# Altium schematic symbol library Microver.SchLib: 988 symbols (part 17 of 17)
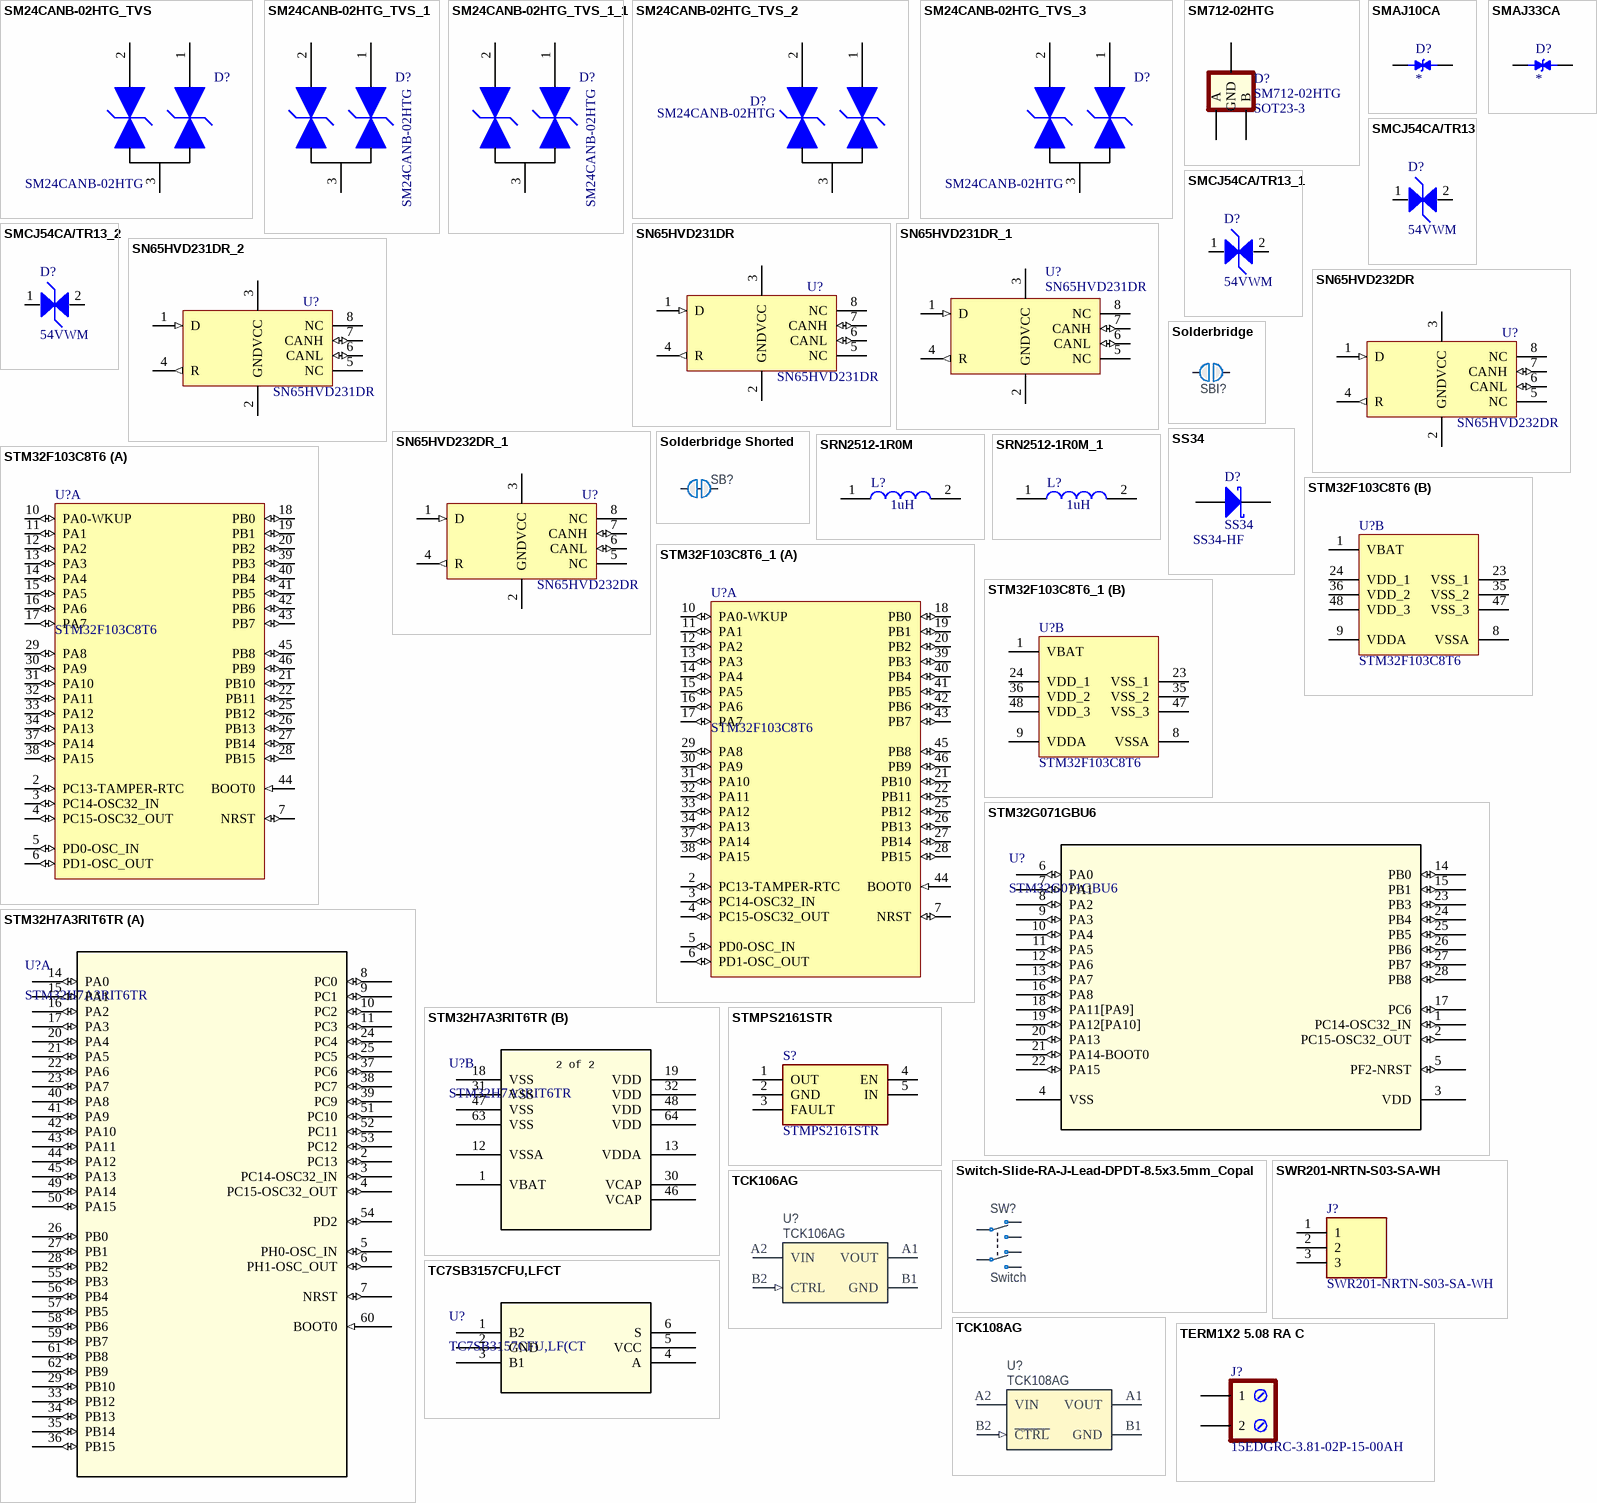
[diagram p45: symbols SM24CANB-02HTG_TVS to TERM1X2 5.08 RA C]

## STM32F103C8T6
designator U?
ARM Cortex-M3 32-bit MCU, 64 KB Flash, 20 KB Internal RAM, 37 I/Os, 48-pin LQFP, -40 to 85 degC, Tray; Operating Frequency(F) (Processor speed) (MHz): 72; Supply Voltage(Vcc) min (V): 2; FLASH Size (Prog) (kB): 64; Internal RAM Size (kB): 20; I/Os (High Current): 37; A/D Converter: 2x12-bit (10 Channel); Core: ARM Cortex-M3; ComponentLink2Description: Datasheet; ComponentLink3Description: Package Specification; Mounting Technology: Surface Mount; ComponentLink3URL: http://www.st.com/st-web-ui/static/active/en/resource/technical/document/datasheet/DM00058181.pdf; DatasheetVersion: Rev. 16; ComponentLink1URL: http://www.st.com/web/en/home.html; ComponentLink1Description: Manufacturer URL; Manufacturer Part Number: STM32F103C8T6; Packing: Tray; PackageVersion: Rev. 6, 06/2013; PackageReference: LQFP48; PackageDescription: 48-Pin Low Profile Quad Flat Package, 7 x 7 mm Body, 0.5 mm Pitch; ComponentLink2URL: http://www.st.com/st-web-ui/static/active/en/resource/technical/document/datasheet/CD00161566.pdf; LCSC Part Number: C8734; LCSC Manufacturer Part Number: STM32F103C8T6
footprint STM-LQFP48_M
footprint STM-LQFP48_L
footprint STM-LQFP48_N
part A pins: 2 PC13-TAMPER-RTC (io) "PC13-TAMPER-RTC/PC13/TAMPER-RTC", 3 PC14-OSC32_IN (io) "PC14-OSC32_IN/PC14/OSC32_IN", 4 PC15-OSC32_OUT (io) "PC15-OSC32_OUT/PC15/OSC32_OUT", 5 PD0-OSC_IN (io) "PD0/OSC_IN", 6 PD1-OSC_OUT (io) "PD1/OSC_OUT", 7 NRST (io), 10 PA0-WKUP (io) "PA0-WKUP/PA0/WKUP/USART2_CTS/ADC12_IN0/TIM2_CH1_ETR", 11 PA1 (io) "PA1/USART2_RTS/ADC12_IN1/TIM2_CH2", 12 PA2 (io) "PA2/USART2_TX/ADC12_IN2/TIM2_CH3", 13 PA3 (io) "PA3/USART2_RX/ADC12_IN3/TIM2_CH4", 14 PA4 (io) "PA4/SPI1_NSS/USART2_CK/ADC12_IN4", 15 PA5 (io) "PA5/SPI1_SCK/ADC12_IN5", 16 PA6 (io) "PA6/SPI1_MISO/ADC12_IN6/TIM3_CH1/TIM1_BKIN", 17 PA7 (io) "PA7/SPI1_MOSI/ADC12_IN7/TIM3_CH2/TIM1_CH1N", 18 PB0 (io) "PB0/ADC12_IN8/TIM3_CH3/TIM1_CH2N", 19 PB1 (io) "PB1/ADC12_IN9/TIM3_CH4/TIM1_CH3N", 20 PB2 (io) "PB2/BOOT1", 21 PB10 (io) "PB10/I2C2_SCL/USART3_TX/TIM2_CH3", 22 PB11 (io) "PB11/I2C2_SDA/USART3_RX/TIM2_CH4", 25 PB12 (io) "PB12/SPI2_NSS/I2C2_SMBAl/USART3_CK/TIM1_BKIN", 26 PB13 (io) "PB13/SPI2_SCK/USART3_CTS/TIM1_CH1N", 27 PB14 (io) "PB14/SPI2_MISO/USART3_RTS/TIM1_CH2N", 28 PB15 (io) "PB15/SPI2_MOSI/TIM1_CH3N", 29 PA8 (io) "PA8/USART1_CK/TIM1_CH1/MCO", 30 PA9 (io) "PA9/USART1_TX/TIM1_CH2", 31 PA10 (io) "PA10/USART1_RX/TIM1_CH3", 32 PA11 (io) "PA11/USART1_CTS/CANRX/USBDM/TIM1_CH4", 33 PA12 (io) "PA12/USART1_RTS/CANTX/USBDP/TIM1_ETR", 34 PA13 (io) "PA13/JTMS/SWDIO", 37 PA14 (io) "PA14/JTCK/SWCLK", 38 PA15 (io) "PA15/JTDI/TIM2_CH1_ETR/SPI1_NSS", 39 PB3 (io) "PB3/JTDO/TIM2_CH2/TRACESWO/SPI1_SCK", 40 PB4 (io) "PB4/NJTRST/TIM3_CH1/SPI1_MISO", 41 PB5 (io) "PB5/I2C1_SMBAI/TIM3_CH2/SPI1_MOSI", 42 PB6 (io) "PB6/I2C1_SCL/TIM4_CH1/USART1_TX", 43 PB7 (io) "PB7/I2C1_SDA/TIM4_CH2/USART1_RX", 44 BOOT0 (in), 45 PB8 (io) "PB8/TIM4_CH3/I2C1_SCL/CANRX", 46 PB9 (io) "PB9/TIM4_CH4/I2C1_SDA/CANTX"
part B pins: 1 VBAT (power), 8 VSSA, 9 VDDA (power), 23 VSS_1, 24 VDD_1 (power), 35 VSS_2, 36 VDD_2 (power), 47 VSS_3, 48 VDD_3 (power)

## STM32F103C8T6_1
designator U?, comment STM32F103C8T6
ARM Cortex-M3 32-bit MCU, 64 KB Flash, 20 KB Internal RAM, 37 I/Os, 48-pin LQFP, -40 to 85 degC, Tray; Operating Frequency(F) (Processor speed) (MHz): 72; Supply Voltage(Vcc) min (V): 2; FLASH Size (Prog) (kB): 64; Internal RAM Size (kB): 20; I/Os (High Current): 37; A/D Converter: 2x12-bit (10 Channel); Core: ARM Cortex-M3; ComponentLink2Description: Datasheet; ComponentLink3Description: Package Specification; Mounting Technology: Surface Mount; ComponentLink3URL: http://www.st.com/st-web-ui/static/active/en/resource/technical/document/datasheet/DM00058181.pdf; DatasheetVersion: Rev. 16; ComponentLink1URL: http://www.st.com/web/en/home.html; ComponentLink1Description: Manufacturer URL; Manufacturer Part Number: STM32F103C8T6; Packing: Tray; PackageVersion: Rev. 6, 06/2013; PackageReference: LQFP48; PackageDescription: 48-Pin Low Profile Quad Flat Package, 7 x 7 mm Body, 0.5 mm Pitch; ComponentLink2URL: http://www.st.com/st-web-ui/static/active/en/resource/technical/document/datasheet/CD00161566.pdf; LCSC Part Number: C8734; LCSC Manufacturer Part Number: STM32F103C8T6
footprint STM-LQFP48_M
footprint STM-LQFP48_L
footprint STM-LQFP48_N
part A pins: 2 PC13-TAMPER-RTC (io) "PC13-TAMPER-RTC/PC13/TAMPER-RTC", 3 PC14-OSC32_IN (io) "PC14-OSC32_IN/PC14/OSC32_IN", 4 PC15-OSC32_OUT (io) "PC15-OSC32_OUT/PC15/OSC32_OUT", 5 PD0-OSC_IN (io) "PD0/OSC_IN", 6 PD1-OSC_OUT (io) "PD1/OSC_OUT", 7 NRST (io), 10 PA0-WKUP (io) "PA0-WKUP/PA0/WKUP/USART2_CTS/ADC12_IN0/TIM2_CH1_ETR", 11 PA1 (io) "PA1/USART2_RTS/ADC12_IN1/TIM2_CH2", 12 PA2 (io) "PA2/USART2_TX/ADC12_IN2/TIM2_CH3", 13 PA3 (io) "PA3/USART2_RX/ADC12_IN3/TIM2_CH4", 14 PA4 (io) "PA4/SPI1_NSS/USART2_CK/ADC12_IN4", 15 PA5 (io) "PA5/SPI1_SCK/ADC12_IN5", 16 PA6 (io) "PA6/SPI1_MISO/ADC12_IN6/TIM3_CH1/TIM1_BKIN", 17 PA7 (io) "PA7/SPI1_MOSI/ADC12_IN7/TIM3_CH2/TIM1_CH1N", 18 PB0 (io) "PB0/ADC12_IN8/TIM3_CH3/TIM1_CH2N", 19 PB1 (io) "PB1/ADC12_IN9/TIM3_CH4/TIM1_CH3N", 20 PB2 (io) "PB2/BOOT1", 21 PB10 (io) "PB10/I2C2_SCL/USART3_TX/TIM2_CH3", 22 PB11 (io) "PB11/I2C2_SDA/USART3_RX/TIM2_CH4", 25 PB12 (io) "PB12/SPI2_NSS/I2C2_SMBAl/USART3_CK/TIM1_BKIN", 26 PB13 (io) "PB13/SPI2_SCK/USART3_CTS/TIM1_CH1N", 27 PB14 (io) "PB14/SPI2_MISO/USART3_RTS/TIM1_CH2N", 28 PB15 (io) "PB15/SPI2_MOSI/TIM1_CH3N", 29 PA8 (io) "PA8/USART1_CK/TIM1_CH1/MCO", 30 PA9 (io) "PA9/USART1_TX/TIM1_CH2", 31 PA10 (io) "PA10/USART1_RX/TIM1_CH3", 32 PA11 (io) "PA11/USART1_CTS/CANRX/USBDM/TIM1_CH4", 33 PA12 (io) "PA12/USART1_RTS/CANTX/USBDP/TIM1_ETR", 34 PA13 (io) "PA13/JTMS/SWDIO", 37 PA14 (io) "PA14/JTCK/SWCLK", 38 PA15 (io) "PA15/JTDI/TIM2_CH1_ETR/SPI1_NSS", 39 PB3 (io) "PB3/JTDO/TIM2_CH2/TRACESWO/SPI1_SCK", 40 PB4 (io) "PB4/NJTRST/TIM3_CH1/SPI1_MISO", 41 PB5 (io) "PB5/I2C1_SMBAI/TIM3_CH2/SPI1_MOSI", 42 PB6 (io) "PB6/I2C1_SCL/TIM4_CH1/USART1_TX", 43 PB7 (io) "PB7/I2C1_SDA/TIM4_CH2/USART1_RX", 44 BOOT0 (in), 45 PB8 (io) "PB8/TIM4_CH3/I2C1_SCL/CANRX", 46 PB9 (io) "PB9/TIM4_CH4/I2C1_SDA/CANTX"
part B pins: 1 VBAT (power), 8 VSSA, 9 VDDA (power), 23 VSS_1, 24 VDD_1 (power), 35 VSS_2, 36 VDD_2 (power), 47 VSS_3, 48 VDD_3 (power)

## STM32G071GBU6
designator U?
Mainstream Arm Cortex-M0+ MCU with 128 Kbytes of Flash memory, 36 Kbytes RAM, 64 MHz CPU, 4x USART, timers, ADC, DAC, comm. I/F, 1.7-3.6V; Manufacturer_Name: STMicroelectronics; Copyright: Copyright (C) 2025 Ultra Librarian. All rights reserved.; Manufacturer_Part_Number: STM32G071GBU6; Datasheet: https://www.st.com/resource/en/datasheet/stm32g071c8.pdf; RefDes: RefDes; Type: Type
footprint UFQFPN-28
pins: 1 PC14-OSC32_IN (io), 2 PC15-OSC32_OUT (io), 3 VDD (power), 4 VSS (power), 5 PF2-NRST (io), 6 PA0 (io), 7 PA1 (io), 8 PA2 (io), 9 PA3 (io), 10 PA4 (io), 11 PA5 (io), 12 PA6 (io), 13 PA7 (io), 14 PB0 (io), 15 PB1 (io), 16 PA8 (io), 17 PC6 (io), 18 PA11[PA9] (io), 19 PA12[PA10] (io), 20 PA13 (io), 21 PA14-BOOT0 (io), 22 PA15 (io), 23 PB3 (io), 24 PB4 (io), 25 PB5 (io), 26 PB6 (io), 27 PB7 (io), 28 PB8 (io)

## STM32H7A3RIT6TR
designator U?
High-performance and DSP with DP-FPU, Arm Cortex-M7  MCU with 2MBytes of Flash memory, 1376 KB SRAM, 280 MHz CPU, L1 cache, graphic accelerations, external memory interfaces and large set of peripherals; Manufacturer_Name: STMicroelectronics; Copyright: Copyright (C) 2025 Ultra Librarian. All rights reserved.; Manufacturer_Part_Number: STM32H7A3RIT6TR; Datasheet: https://www.st.com/resource/en/datasheet/stm32h7a3ai.pdf; RefDes: RefDes; Type: Type
footprint LQFP64-10x10mm_STM
part A pins: 2 PC13 (io), 3 PC14-OSC32_IN (io), 4 PC15-OSC32_OUT (io), 5 PH0-OSC_IN (io), 6 PH1-OSC_OUT (io), 7 NRST (io), 8 PC0 (io), 9 PC1 (io), 10 PC2 (io), 11 PC3 (io), 14 PA0 (io), 15 PA1 (io), 16 PA2 (io), 17 PA3 (io), 20 PA4 (io), 21 PA5 (io), 22 PA6 (io), 23 PA7 (io), 24 PC4 (io), 25 PC5 (io), 26 PB0 (io), 27 PB1 (io), 28 PB2 (io), 29 PB10 (io), 33 PB12 (io), 34 PB13 (io), 35 PB14 (io), 36 PB15 (io), 37 PC6 (io), 38 PC7 (io), 39 PC9 (io), 40 PA8 (io), 41 PA9 (io), 42 PA10 (io), 43 PA11 (io), 44 PA12 (io), 45 PA13 (io), 49 PA14 (io), 50 PA15 (io), 51 PC10 (io), 52 PC11 (io), 53 PC12 (io), 54 PD2 (io), 55 PB3 (io), 56 PB4 (io), 57 PB5 (io), 58 PB6 (io), 59 PB7 (io), 60 BOOT0 (in), 61 PB8 (io), 62 PB9 (io)
part B pins: 1 VBAT (power), 12 VSSA (power), 13 VDDA (power), 18 VSS (power), 19 VDD (power), 30 VCAP (power), 31 VSS (power), 32 VDD (power), 46 VCAP (power), 47 VSS (power), 48 VDD (power), 63 VSS (power), 64 VDD (power)
part B text: 2 of 2

## STMPS2161STR
designator S?
Switch; Manufacturer_Name: STMicroelectronics; Datasheet Link: https://componentsearchengine.com/Datasheets/2/STMPS2161STR.pdf; Height: 1.45mm; Manufacturer_Part_Number: STMPS2161STR
footprint SOT95P280X145-5N
pins: 1 OUT, 2 GND, 3 FAULT, 4 EN, 5 IN

## Switch-Slide-RA-J-Lead-DPDT-8.5x3.5mm_Copal
designator SW?, comment Switch
SMD slide Switch (ON-ON); Part Number: Switch-Slide-RA-J-Lead-DPDT-8.5x3.5mm_Copal; Manufacturer: Copal Electronics Inc; Manufacturer Part Number: CL-SB-22A-11T; Part number IPS: 00000007811; Part number Norautron: 26470017; Part number NEMS: 101500038; Note: N.A.; Pad Count: 6; Component Status: Active; Footprint Doc: Switch-Slide-RA-J-Lead-DPDT-8.5x3.5mm; LatestRevisionDate: 2017-02-01; Published: 2017-02-01; Value: Switch; Artikkelnr Noca: N.A.; ComponentLink1URL: N.A.; ComponentLink1Description: Datasheet; ComponentLink2URL: N.A.; ComponentLink2Description: Supplier link; HelpURL: http://www.nidec-copal-electronics.com/e/catalog/switch/cl-sb.pdf; Supplier 1: Digi-Key; Supplier Part Number 1: 563-1340-1-ND; Supplier 2: Avnet; Supplier Part Number 2: CL-SB-22A-11T; Author: rsk; Component Class: Switches; PartId: 101500038
footprint Switch-Slide-RA-J-Lead-DPDT-8.5x3.5mm
pins: 1 N.O-1, 2 COM-1, 3 N.C-1, 4 N.O-2, 5 COM-2, 6 N.C-2

## SWR201-NRTN-S03-SA-WH
designator J?
Connector; Manufacturer_Name: Sullins; Datasheet Link: https://drawings-pdf.s3.amazonaws.com/11623.pdf; Height: 6.3mm; Manufacturer_Part_Number: SWR201-NRTN-S03-SA-WH
footprint SHDR3W50P0X200_1X3_790X460X630P
pins: 1, 2, 3

## TC7SB3157CFU,LFCT
designator U?, comment TC7SB3157CFU,LF(CT
No Description Available; Manufacturer_Name: Toshiba Electronic Devices & Storage Corp.; Copyright: Copyright (C) 2025 Ultra Librarian. All rights reserved.; Manufacturer_Part_Number: TC7SB3157CFU,LF(CT; RefDes: RefDes; Type: Type
footprint SOT-363   US6_TOS
pins: 1 B2, 2 GND, 3 B1, 4 A, 5 VCC, 6 S

## TCK106AG
designator U?
1.0 A Load Switch IC with Slew Rate Control Driver in Ultra Small Package; Manufacturer: Toshiba; Manufacturer Part Number: TCK106AG,LF; Part number IPS: 00000004390; Part number Norautron: 26500627; Part number NEMS: 101900575; Note: N.A.; Pad Count: 4; Component Status: Active; Part Number: TCK106AG; ComponentLink1URL: https://toshiba.semicon-storage.com/info/docget.jsp?did=30131&prodName=TCK106AG; ComponentLink1Description: Datasheet; ComponentLink2URL: N.A.; ComponentLink2Description: Supplier link; HelpURL: N.A.; Footprint Doc: WLCSP-4; LatestRevisionDate: 2019-03-01; Published: 2019-02-17; Value: TCK106AG; Supplier 1: Digi-Key; Supplier Part Number 1: TCK106AGLFTR-ND; Supplier 2: Mouser; Supplier Part Number 2: 757-TCK106AGLF; Artikkelnr Noca: N.A.; Component Class: Misc_ICs; PartId: 101900575; Author: rsk
footprint BGA4C40P2X2_76X76X62
pins: A1 VOUT (power), A2 VIN (power), B1 GND (power), B2 CTRL (in)

## TCK108AG
designator U?
1.0 A Load Switch IC with Slew Rate Control Driver in Ultra Small Package; Manufacturer: Toshiba; Manufacturer Part Number: TCK108AG,LF; Part number NEMS: 101900814; Pad Count: 4; Note: N.A.; Component Status: Active; Part Number: TCK108AG; Component Class: Misc_ICs; ComponentLink1URL: https://toshiba.semicon-storage.com/info/docget.jsp?did=30131&prodName=TCK106AG; ComponentLink1Description: Datasheet; ComponentLink2URL: N.A.; ComponentLink2Description: Supplier link; HelpURL: https://toshiba.semicon-storage.com/ap-en/semiconductor/product/power-management-ics/load-switch-ics/detail.TCK108AG.html; Footprint Doc: WLCSP-4; LatestRevisionDate: 2024-02-27; Published: 2024-02-27; Value: TCK108AG; Supplier 1: Digi-Key; Supplier Part Number 1: TCK108AGLFCT-ND; Supplier 2: Mouser; Supplier Part Number 2: 757-TCK108AGLF; Artikkelnr Noca: N.A.; Part number IPS: N.A.; Author: getr; Part number Norautron: N.A.; PartId: 101900814
footprint BGA4C40P2X2_76X76X62
pins: A1 VOUT (power), A2 VIN (power), B1 GND (power), B2 ~{CTRL} (in)

## TERM1X2 5.08 RA C
designator J?, comment 15EDGRC-3.81-02P-15-00AH
TERM BLOCK MALE 1X2POS 5.08MM SHRD4 RA THR; Manufacturer: DEGSON; Manufacturer Part Name: 15EDGRC-3.81-02P-15-00AH; Supplier: OZDISAN; Supplier No: 15EDGRC-3.81-02P-15-00AH; Value: 15EDGRC-3.81-02P-15-00AH
footprint 15EDGRC-3.81-02P-15-00AH
pins: 1, 2

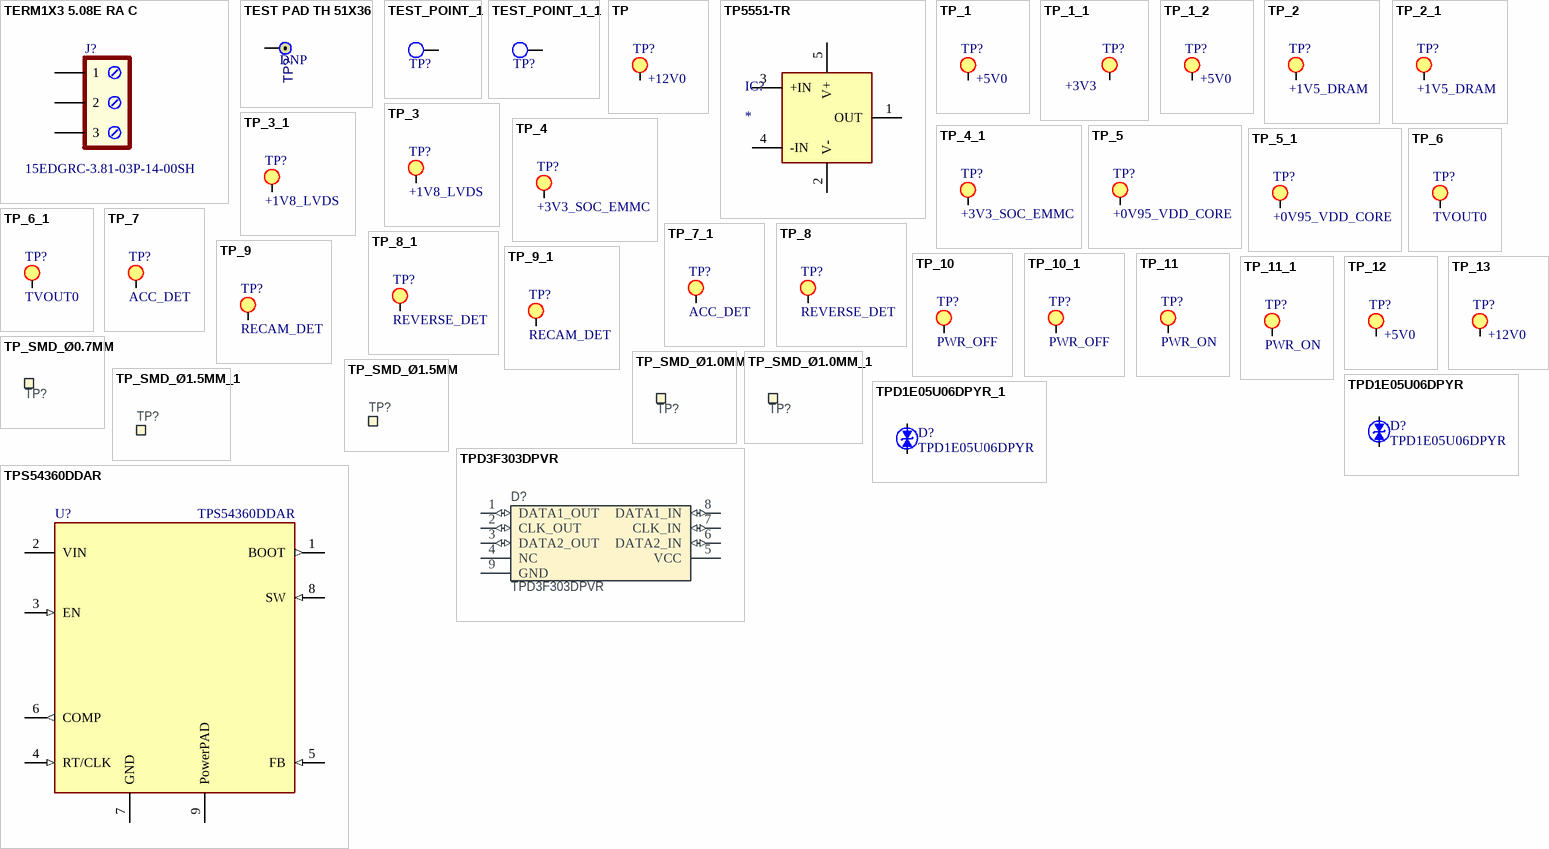
[diagram p28: symbols TERM1X3 5.08E RA C to TPS54360DDAR]

## TERM1X3 5.08E RA C
designator J?, comment 15EDGRC-3.81-03P-14-00SH
TERM BLOCK MALE 1X3POS 5.08MM SHRD4 RA THR; Manufacturer: DEGSON; Manufacturer Part Name: 15EDGRC-3.81-03P-14-00SH; Supplier: OZDISAN; Supplier No: 15EDGRC-3.81-03P-14-00SH; Value: 15EDGRC-3.81-03P-14-00SH
footprint 15EDGRC-3.81-03P-14-00SH
pins: 1, 2, 3

## TEST PAD TH 51X36
designator TP?, comment Populated: DNP  (hidden comment: Jumper)  (no BOM)
Test Pad TH 51X36; Manufacturer Part Number: none; Description_: TEST Pad, PIN sized, 51pad, 36 FHS; Manufacturer: none; Category: Non BOM Item; Type: Male; Mounting Type: Through Hole; Supplier 1: none; Supplier Part Number 1: none
footprint TP_PAD51D36 (TEST POINT, PLATED THRU HOLE PAD51_DRILL36)
footprint TEST_POINT
pins: 1 P1

## TEST_POINT_1
designator TP?, comment TEST_POINT  (value not drawn)  (no BOM)
footprint TEST_POINT_TH
pins: 1

## TEST_POINT_1_1
designator TP?, comment TEST_POINT  (value not drawn)  (no BOM)
footprint TEST_POINT_TH
pins: 1

## TP
designator TP?, comment +12V0
footprint TEST_POINT
footprint TEST_POINT_TH
pins: 1 TP

## TP5551-TR
designator IC?
Integrated Circuit; Manufacturer_Name: 3Peak Incorporated; Manufacturer_Part_Number: TP5551-TR; Datasheet Link: http://file.3peakic.com.cn:8080/product/Datasheet_TP5551-TP5552-TP5554.pdf; Height: 1.25mm; Arrow Part Number: TP5551-TR; Arrow Price/Stock: https://www.arrow.com/en/products/tp5551-tr/3peak
footprint SOT95P280X125-5N
pins: 1 OUT, 2 V-, 3 +IN, 4 -IN, 5 V+

## TP_1
designator TP?, comment +5V0
footprint TEST_POINT
footprint TEST_POINT_TH
pins: 1 TP

## TP_1_1
designator TP?, comment +3V3
footprint TEST_POINT
footprint TEST_POINT_TH
pins: 1 TP

## TP_1_2
designator TP?, comment +5V0
footprint TEST_POINT
footprint TEST_POINT_TH
pins: 1 TP

## TP_2
designator TP?, comment +1V5_DRAM
footprint TEST_POINT
footprint TEST_POINT_TH
pins: 1 TP

## TP_2_1
designator TP?, comment +1V5_DRAM
footprint TEST_POINT
footprint TEST_POINT_TH
pins: 1 TP

## TP_3
designator TP?, comment +1V8_LVDS
footprint TEST_POINT
footprint TEST_POINT_TH
pins: 1 TP

## TP_3_1
designator TP?, comment +1V8_LVDS
footprint TEST_POINT
footprint TEST_POINT_TH
pins: 1 TP

## TP_4
designator TP?, comment +3V3_SOC_EMMC
footprint TEST_POINT
footprint TEST_POINT_TH
pins: 1 TP

## TP_4_1
designator TP?, comment +3V3_SOC_EMMC
footprint TEST_POINT
footprint TEST_POINT_TH
pins: 1 TP

## TP_5
designator TP?, comment +0V95_VDD_CORE
footprint TEST_POINT
footprint TEST_POINT_TH
pins: 1 TP

## TP_5_1
designator TP?, comment +0V95_VDD_CORE
footprint TEST_POINT
footprint TEST_POINT_TH
pins: 1 TP

## TP_6
designator TP?, comment TVOUT0
footprint TEST_POINT
footprint TEST_POINT_TH
pins: 1 TP

## TP_6_1
designator TP?, comment TVOUT0
footprint TEST_POINT
footprint TEST_POINT_TH
pins: 1 TP

## TP_7
designator TP?, comment ACC_DET
footprint TEST_POINT
footprint TEST_POINT_TH
pins: 1 TP

## TP_7_1
designator TP?, comment ACC_DET
footprint TEST_POINT
footprint TEST_POINT_TH
pins: 1 TP

## TP_8
designator TP?, comment REVERSE_DET
footprint TEST_POINT
footprint TEST_POINT_TH
pins: 1 TP

## TP_8_1
designator TP?, comment REVERSE_DET
footprint TEST_POINT
footprint TEST_POINT_TH
pins: 1 TP

## TP_9
designator TP?, comment RECAM_DET
footprint TEST_POINT
footprint TEST_POINT_TH
pins: 1 TP

## TP_9_1
designator TP?, comment RECAM_DET
footprint TEST_POINT
footprint TEST_POINT_TH
pins: 1 TP

## TP_10
designator TP?, comment PWR_OFF
footprint TEST_POINT
footprint TEST_POINT_TH
pins: 1 TP

## TP_10_1
designator TP?, comment PWR_OFF
footprint TEST_POINT
footprint TEST_POINT_TH
pins: 1 TP

## TP_11
designator TP?, comment PWR_ON
footprint TEST_POINT
footprint TEST_POINT_TH
pins: 1 TP

## TP_11_1
designator TP?, comment PWR_ON
footprint TEST_POINT
footprint TEST_POINT_TH
pins: 1 TP

## TP_12
designator TP?, comment +5V0
footprint TEST_POINT
footprint TEST_POINT_TH
pins: 1 TP

## TP_13
designator TP?, comment +12V0
footprint TEST_POINT
footprint TEST_POINT_TH
pins: 1 TP

## TP_SMD_Ø0.7MM
designator TP?, comment Ø0.7mm,SMD  (value not drawn)  (no BOM)
0.7mm circular SMD testpad; Part Number: TP_SMD_Ø0.7MM; Manufacturer: Nordic Semiconductor; Manufacturer Part Number: N.A.; Part number NEMS: 100500474; Pad Count: 1; Component Status: Active; PartId: 100500474; Component Class: Connectors; ComponentLink1URL: N.A.; ComponentLink1Description: Datasheet; ComponentLink2URL: N.A.; ComponentLink2Description: Supplier link; HelpURL: N.A.; Footprint Doc: TP_SMD_Ø0.7mm; LatestRevisionDate: 2021-03-05; Published: 2017-12-14; Value: Ø0.7mm,SMD; Note: N.A.; Supplier 1: N.A.; Supplier Part Number 1: N.A.; Supplier 2: N.A.; Supplier Part Number 2: N.A.; Artikkelnr Noca: N.A.; Part number IPS: N.A.; Author: rsk; Part number Norautron: N.A.
footprint TP_SMD_D0.7mm
pins: 1

## TP_SMD_Ø1.0MM
designator TP?, comment Ø1.0mm,SMD  (value not drawn)  (no BOM)
1.0mm circular SMD testpad; Part Number: TP_SMD_Ø1.0MM; Manufacturer: Nordic Semiconductor; Manufacturer Part Number: N.A.; Part number NEMS: 100500475; Pad Count: 1; Component Status: Active; PartId: 100500475; Component Class: Connectors; ComponentLink1URL: N.A.; ComponentLink1Description: Datasheet; ComponentLink2URL: N.A.; ComponentLink2Description: Supplier link; HelpURL: N.A.; Footprint Doc: TP_SMD_Ø1.0mm; LatestRevisionDate: 2021-03-05; Published: 2013-06-11; Value: Ø1.0mm,SMD; Note: N.A.; Supplier 1: N.A.; Supplier Part Number 1: N.A.; Supplier 2: N.A.; Supplier Part Number 2: N.A.; Artikkelnr Noca: N.A.; Part number IPS: N.A.; Author: rsk; Part number Norautron: N.A.
footprint TP_SMD_D1.0mm
pins: 1

## TP_SMD_Ø1.0MM_1
designator TP?, comment Ø1.0mm,SMD  (value not drawn)  (no BOM)
1.0mm circular SMD testpad; Part Number: TP_SMD_Ø1.0MM; Manufacturer: Nordic Semiconductor; Manufacturer Part Number: N.A.; Part number NEMS: 100500475; Pad Count: 1; Component Status: Active; System: Connector; PartId: 100500475; Component Class: Connectors; ComponentLink1URL: N.A.; ComponentLink1Description: Datasheet; ComponentLink2URL: N.A.; ComponentLink2Description: Supplier link; HelpURL: N.A.; Footprint Doc: TP_SMD_Ø1.0mm; LatestRevisionDate: 2021-03-05; Published: 2013-06-11; Value: Ø1.0mm,SMD; Note: N.A.; Supplier 1: N.A.; Supplier Part Number 1: N.A.; Supplier 2: N.A.; Supplier Part Number 2: N.A.; Artikkelnr Noca: N.A.; Part number IPS: N.A.; Author: rsk; Part number Norautron: N.A.
footprint TP_SMD_D1.0mm
pins: 1

## TP_SMD_Ø1.5MM
designator TP?, comment Ø1.5mm,SMD  (value not drawn)  (no BOM)
1.5mm circular SMD testpad; Part Number: TP_SMD_Ø1.5MM; Manufacturer: Nordic Semiconductor; Manufacturer Part Number: N.A.; Part number NEMS: 100500477; Pad Count: 1; Component Status: Active; Footprint Doc: TP_SMD_Ø1.5mm; LatestRevisionDate: 2021-03-05; Published: 2016-06-02; Value: Ø1.5mm,SMD; Note: N.A.; Artikkelnr Noca: N.A.; Part number IPS: N.A.; ComponentLink1URL: N.A.; ComponentLink1Description: Datasheet; ComponentLink2URL: N.A.; ComponentLink2Description: Supplier link; HelpURL: N.A.; Supplier 1: N.A.; Supplier Part Number 1: N.A.; Supplier 2: N.A.; Supplier Part Number 2: N.A.; PartId: 100500477; Component Class: Connectors; Author: rsk; Part number Norautron: N.A.
footprint TP_SMD_D1.5mm
pins: 1

## TP_SMD_Ø1.5MM_1
designator TP?, comment Ø1.5mm,SMD  (value not drawn)  (no BOM)
1.5mm circular SMD testpad; Part Number: TP_SMD_Ø1.5MM; Manufacturer: Nordic Semiconductor; Manufacturer Part Number: N.A.; Part number NEMS: 100500477; Pad Count: 1; Component Status: Active; System: Connector; Footprint Doc: TP_SMD_Ø1.5mm; LatestRevisionDate: 2021-03-05; Published: 2016-06-02; Value: Ø1.5mm,SMD; Note: N.A.; Artikkelnr Noca: N.A.; Part number IPS: N.A.; ComponentLink1URL: N.A.; ComponentLink1Description: Datasheet; ComponentLink2URL: N.A.; ComponentLink2Description: Supplier link; HelpURL: N.A.; Supplier 1: N.A.; Supplier Part Number 1: N.A.; Supplier 2: N.A.; Supplier Part Number 2: N.A.; PartId: 100500477; Component Class: Connectors; Author: rsk; Part number Norautron: N.A.
footprint TP_SMD_D1.5mm
pins: 1

## TPD1E05U06DPYR
designator D?, comment Manufacturer Part Number: TPD1E05U06DPYR  (hidden comment: TVS DIODE 5.5VWM 14VC 2X1SON)
14V Clamp 2.5A (8/20µs) Ipp Tvs Diode Surface Mount 2-X1SON (1x.60); Order Code: Digi: 296-39341-2-ND; LCSC Manufacturer Part Number: TPD1E05U06DPYR; LCSC Part Number: C436349
footprint D 0402(1005)
pins: 1 G "gate", 2 S "source"

## TPD1E05U06DPYR_1
designator D?, comment Manufacturer Part Number: TPD1E05U06DPYR  (hidden comment: TVS DIODE 5.5VWM 14VC 2X1SON)
14V Clamp 2.5A (8/20µs) Ipp Tvs Diode Surface Mount 2-X1SON (1x.60); Order Code: Digi: 296-39341-2-ND; LCSC Manufacturer Part Number: TPD1E05U06DPYR; LCSC Part Number: C436349
footprint D 0402(1005)
pins: 1 G "gate", 2 S "source"

## TPD3F303DPVR
designator D?
ESD Protection and EMI Filter for SIM Card Interface; Manufacturer: Texas Instruments; Part number NEMS: 101900729; Note: N.A.; Pad Count: 8; Component Status: Active; Part Number: TPD3F303DPVR; Manufacturer Part Number: TPD3F303DPVR; Footprint Doc: USON-8; LatestRevisionDate: 2022-10-19; Published: 2022-10-19; Value: TPD3F303DPVR; Artikkelnr Noca: N.A.; ComponentLink1URL: https://www.ti.com/lit/ds/symlink/tpd3f303.pdf; ComponentLink1Description: Datasheet; ComponentLink2URL: https://www.digikey.com/en/products/detail/texas-instruments/TPD3F303DPVR/2605055; ComponentLink2Description: Supplier link; HelpURL: https://www.ti.com/product/TPD3F303/part-details/TPD3F303DPVR; Supplier 1: Digi-Key; Supplier Part Number 1: 296-28299-1-ND; Supplier 2: Mouser; Supplier Part Number 2: 595-TPD3F303DPVR; Part number IPS: N.A.; PartId: 101900729; Component Class: Misc_ICs; Author: rubr; Part number Norautron: N.A.
footprint SON50P210X160X65_HS-9N
pins: 1 DATA1_OUT (io), 2 CLK_OUT (io), 3 DATA2_OUT (io), 4 NC, 5 VCC (power), 6 DATA2_IN (io), 7 CLK_IN (io), 8 DATA1_IN (io), 9 GND (power)

## TPS54360DDAR
designator U?
Buck, Split Rail Switching Regulator IC Positive Adjustable 0.8V 1 Output 3.5A 8-PowerSOIC (0.154", 3.90mm Width); Order Code: Digi: 296-37676-2-ND; LCSC Manufacturer Part Number: TPS54360DDAR; LCSC Part Number: C44377; Manufacturer Part Number: TPS54360DDAR
footprint S8E_LT
pins: 1 BOOT (out), 2 VIN (power), 3 EN (in), 4 RT/CLK (in), 5 FB (in), 6 COMP (out), 7 GND (power), 8 SW (in), 9 PowerPAD (power)

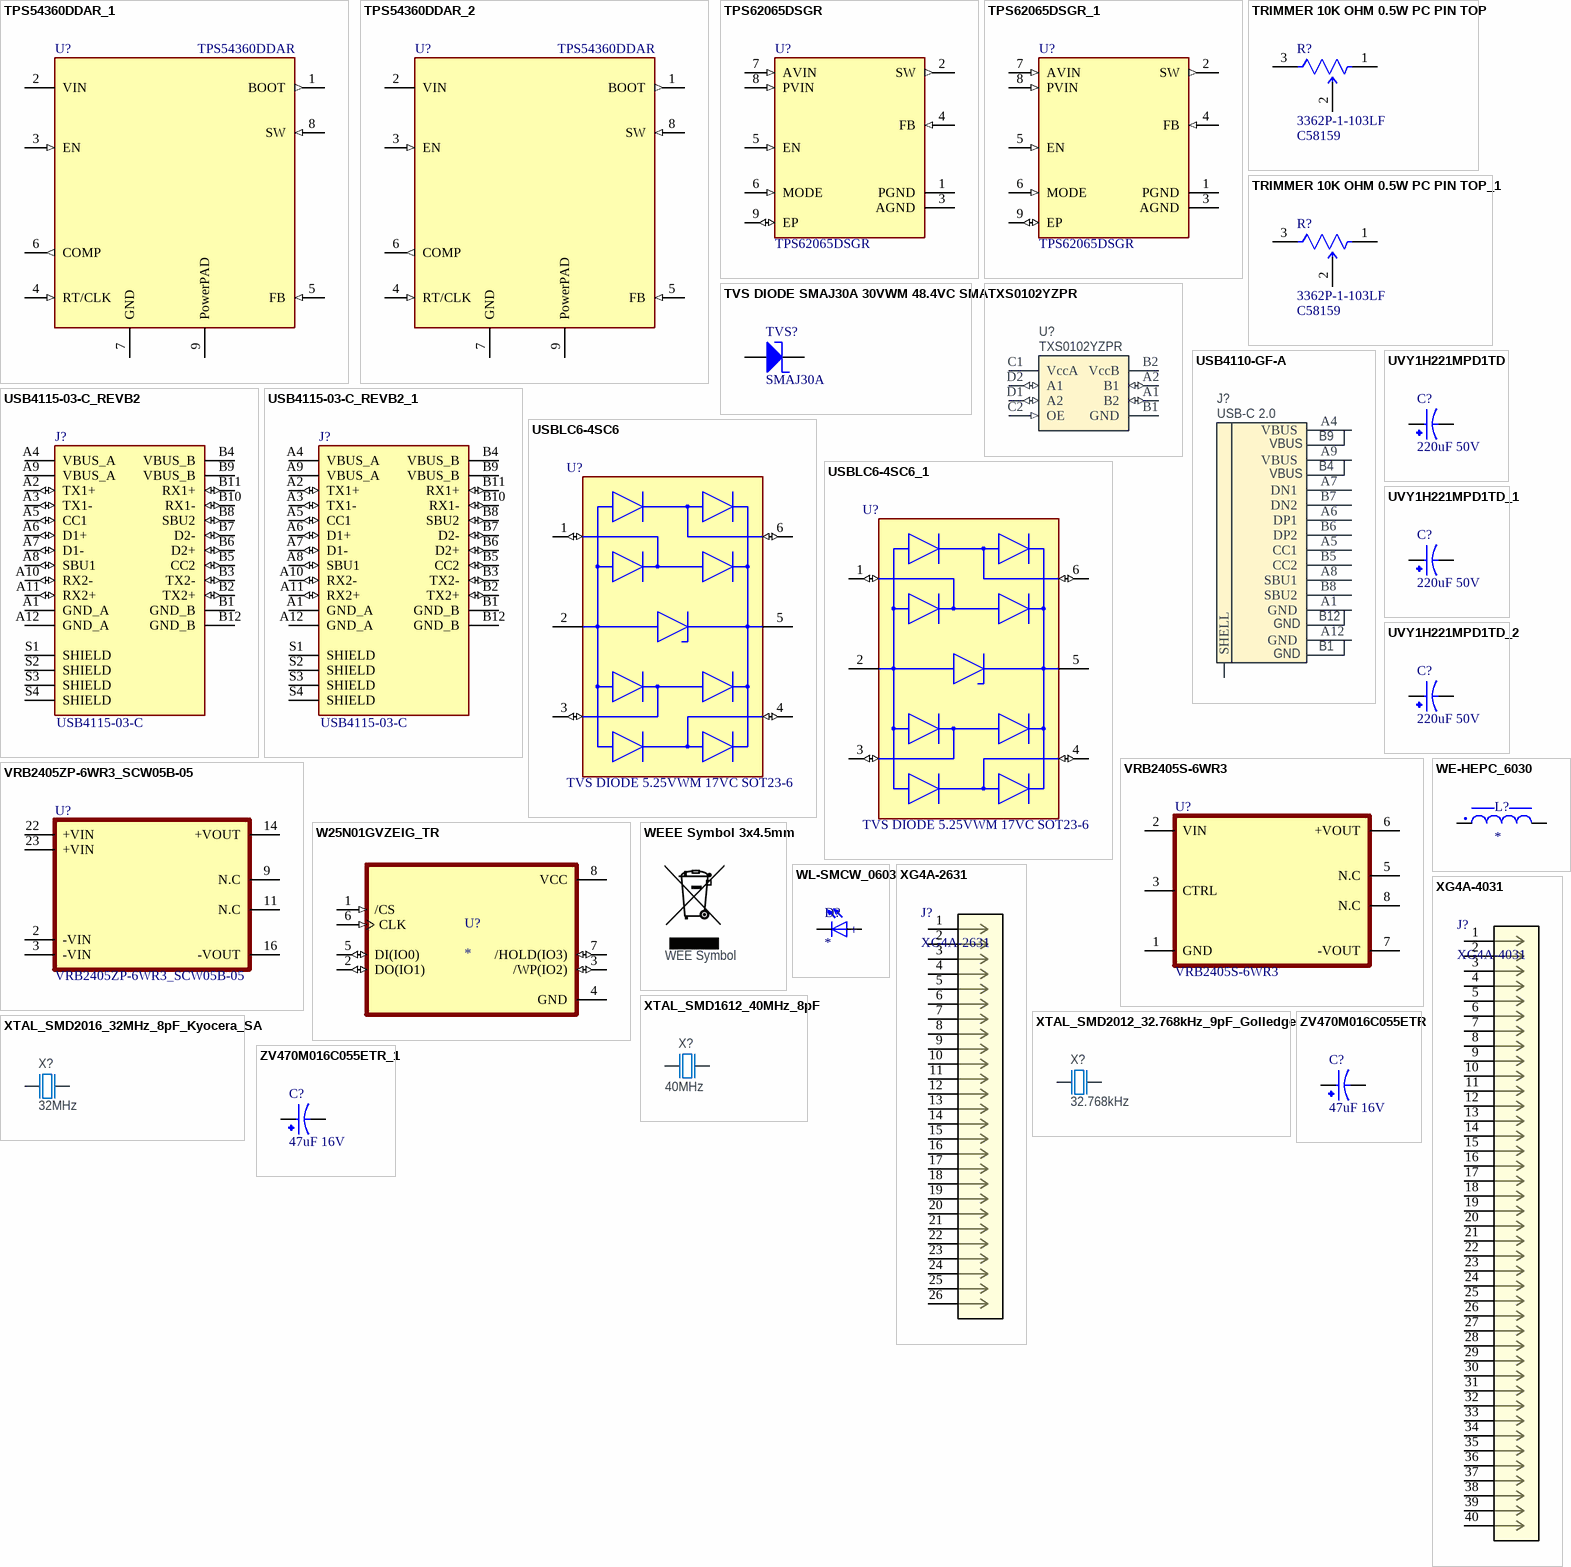
[diagram p29: symbols TPS54360DDAR_1 to ZV470M016C055ETR_1]

## TPS54360DDAR_1
designator U?, comment TPS54360DDAR
Buck, Split Rail Switching Regulator IC Positive Adjustable 0.8V 1 Output 3.5A 8-PowerSOIC (0.154", 3.90mm Width); Order Code: Digi: 296-37676-2-ND; LCSC Manufacturer Part Number: TPS54360DDAR; LCSC Part Number: C44377; Manufacturer Part Number: TPS54360DDAR
footprint S8E_LT
pins: 1 BOOT (out), 2 VIN (power), 3 EN (in), 4 RT/CLK (in), 5 FB (in), 6 COMP (out), 7 GND (power), 8 SW (in), 9 PowerPAD (power)

## TPS54360DDAR_2
designator U?, comment TPS54360DDAR
Buck, Split Rail Switching Regulator IC Positive Adjustable 0.8V 1 Output 3.5A 8-PowerSOIC (0.154", 3.90mm Width); Order Code: Digi: 296-37676-2-ND; LCSC Manufacturer Part Number: TPS54360DDAR; LCSC Part Number: C44377; Manufacturer Part Number: TPS54360DDAR
footprint S8E_LT
pins: 1 BOOT (out), 2 VIN (power), 3 EN (in), 4 RT/CLK (in), 5 FB (in), 6 COMP (out), 7 GND (power), 8 SW (in), 9 PowerPAD (power)

## TPS62065DSGR
designator U?, comment Manufacturer Part Number: TPS62065DSGR  (hidden comment: IC REG BUCK ADJUSTABLE 2A 8WSON)
Buck Switching Regulator IC Positive Adjustable 0.8V 1 Output 2A 8-WFDFN Exposed Pad; Order Code: Digi: 296-39441-2-ND; LCSC Manufacturer Part Number: TPS62065DSGR; LCSC Part Number: C398352
footprint SON50P200X200X80-9N
pins: 1 PGND (power), 2 SW (out), 3 AGND (power), 4 FB (in), 5 EN (in), 6 MODE (in), 7 AVIN (in), 8 PVIN (in), 9 EP (io)

## TPS62065DSGR_1
designator U?, comment Manufacturer Part Number: TPS62065DSGR  (hidden comment: IC REG BUCK ADJUSTABLE 2A 8WSON)
Buck Switching Regulator IC Positive Adjustable 0.8V 1 Output 2A 8-WFDFN Exposed Pad; Order Code: Digi: 296-39441-2-ND; LCSC Manufacturer Part Number: TPS62065DSGR; LCSC Part Number: C398352
footprint SON50P200X200X80-9N
pins: 1 PGND (power), 2 SW (out), 3 AGND (power), 4 FB (in), 5 EN (in), 6 MODE (in), 7 AVIN (in), 8 PVIN (in), 9 EP (io)

## TRIMMER 10K OHM 0.5W PC PIN TOP
designator R?  Manufacturer Part Number: 3362P-1-103LF  LCSC Part Number: C58159  (hidden comment: TRIMMER 10K OHM 0.5W PC PIN TOP)
10 kOhms 0.5W, 1/2W PC Pins Through Hole Trimmer Potentiometer Cermet 1.0 Turn Top Adjustment
footprint Bourns_3386P_MFG
pins: 1 CCW, 2 WIPER, 3 CW

## TRIMMER 10K OHM 0.5W PC PIN TOP_1
designator R?, comment Manufacturer Part Number: 3362P-1-103LF  LCSC Part Number: C58159  (hidden comment: TRIMMER 10K OHM 0.5W PC PIN TOP)
10 kOhms 0.5W, 1/2W PC Pins Through Hole Trimmer Potentiometer Cermet 1.0 Turn Top Adjustment
footprint Bourns_3386P_MFG
pins: 1 CCW, 2 WIPER, 3 CW

## TVS DIODE SMAJ30A 30VWM 48.4VC SMA
designator TVS?  value SMAJ30A  (hidden comment: TVS DIODE SMAJ30A 30VWM 48.4VC SMA)
Manufacturer: LITTELFUSE; Code: 3040004; Family: DIODE; Manufacturer Part Name: SMAJ30A; Package Reference: DO214AC; Supplier: Digikey; Supplier No: SMAJ30ALFDKR-ND
footprint DO214AC (DO-214-AC/SMA; 2 C-Bend Leads; Body 5.3 x 2.6 mm, inc. leads (LxW))
pins: 1 A, 2 K

## TXS0102YZPR
designator U?
Voltage Level Translator Bidirectional 1 Circuit 2 Channel 24Mbps 8-DSBGA; Manufacturer: Texas Instruments; Part number NEMS: 101900724; Pad Count: 8; Note: TEXAS INSTRUMENTS - TXS0102YZTR - IC, TRANSLATOR; Artikkelnr Noca: N.A.; Component Status: Active; Part Number: TXS0102YZPR; Component Class: Misc_ICs; Author: rsk; Manufacturer Part Number: TXS0102YZPR; ComponentLink1URL: https://www.ti.com/lit/gpn/txs0102; ComponentLink1Description: Datasheet; ComponentLink2URL: https://www.digikey.com/en/products/detail/texas-instruments/TXS0102YZPR/1629105; ComponentLink2Description: Supplier link; HelpURL: https://www.ti.com/product/TXS0102; Footprint Doc: UFBGA-8; LatestRevisionDate: 2022-10-05; Published: 2022-10-05; Value: TXS0102YZPR; Supplier 1: Digi-Key; Supplier Part Number 1: 296-TXS0102YZPRCT-ND; Supplier 2: Mouser; Supplier Part Number 2: 595-TXS0102YZPR; Part number IPS: N.A.; Part number Norautron: N.A.; PartId: 101900724
footprint BGA8C50P2X4_89X189X50
pins: A1 B2 (io) "SDA_B", A2 B1 (io) "SCL_B", B1 GND (power), B2 VccB (power) "B port Vcc", C1 VccA (power) "A port power", C2 OE (in) "Enable (OE) with respect to VccA. Max 4.6V", D1 A2 (io) "SDA_A", D2 A1 (io) "SCL_A"

## USB4110-GF-A
designator J?, comment USB-C 2.0
USB-C Receptacle, 16 Pin, USB 2.0; Part Number: USB4110-GF-A; Manufacturer: Global Connector Technology; Part number NEMS: 100500735; Pad Count: 16; Note: N.A.; Component Status: Active; System: Connector; Component Class: Connectors; Manufacturer Part Number: USB4110-GF-A; ComponentLink1URL: https://gct.co/files/drawings/usb4110.pdf; ComponentLink1Description: Datasheet; ComponentLink2URL: https://www.digikey.com/en/products/detail/gct/USB4110-GF-A/10384547; ComponentLink2Description: Supplier link; HelpURL: https://gct.co/connector/usb4110; Footprint Doc: USB4110; LatestRevisionDate: 2021-12-06; Published: 2021-12-06; Value: USB-C 2.0; Supplier 1: Digi-Key; Supplier Part Number 1: 2073-USB4110-GF-A-1-ND; Supplier 2: N.A.; Supplier Part Number 2: N.A.; Artikkelnr Noca: N.A.; Part number IPS: N.A.; Author: rubr; Part number Norautron: N.A.; PartId: 100500735
footprint USB4110
pins: A1 GND (power), A4 VBUS (power), A5 CC1, A6 DP1, A7 DN1, A8 SBU1, A9 VBUS (power), A12 GND (power), B5 CC2, B6 DP2, B7 DN2, B8 SBU2, SHLD SHELL (power)
text: B9; B4; B12; B1

## USB4115-03-C_REVB2
designator J?, comment Manufacturer Part Number: USB4115-03-C  (hidden comment: CONN USB3.1 TYPE-C VERT SOCKET)
USB-C (USB TYPE-C) USB 3.2 Gen 2 (USB 3.1 Gen 2, Superspeed + (USB 3.1)) Receptacle Connector 24 Position Surface Mount, Through Hole; Order Code: Digi: 2073-USB4115-03-CTR-ND
footprint GCT_USB4115-03-C_REVB2
pins: A1 GND_A (power), A2 TX1+ (io), A3 TX1- (io), A4 VBUS_A (power), A5 CC1 (io), A6 D1+ (io), A7 D1- (io), A8 SBU1 (io), A9 VBUS_A (power), A10 RX2- (io), A11 RX2+ (io), A12 GND_A (power), B1 GND_B (power), B2 TX2+ (io), B3 TX2- (io), B4 VBUS_B (power), B5 CC2 (io), B6 D2+ (io), B7 D2- (io), B8 SBU2 (io), B9 VBUS_B (power), B10 RX1- (io), B11 RX1+ (io), B12 GND_B (power), S1 SHIELD, S2 SHIELD, S3 SHIELD, S4 SHIELD

## USB4115-03-C_REVB2_1
designator J?, comment Manufacturer Part Number: USB4115-03-C  (hidden comment: CONN USB3.1 TYPE-C VERT SOCKET)
USB-C (USB TYPE-C) USB 3.2 Gen 2 (USB 3.1 Gen 2, Superspeed + (USB 3.1)) Receptacle Connector 24 Position Surface Mount, Through Hole; Order Code: Digi: 2073-USB4115-03-CTR-ND
footprint GCT_USB4115-03-C_REVB2
pins: A1 GND_A (power), A2 TX1+ (io), A3 TX1- (io), A4 VBUS_A (power), A5 CC1 (io), A6 D1+ (io), A7 D1- (io), A8 SBU1 (io), A9 VBUS_A (power), A10 RX2- (io), A11 RX2+ (io), A12 GND_A (power), B1 GND_B (power), B2 TX2+ (io), B3 TX2- (io), B4 VBUS_B (power), B5 CC2 (io), B6 D2+ (io), B7 D2- (io), B8 SBU2 (io), B9 VBUS_B (power), B10 RX1- (io), B11 RX1+ (io), B12 GND_B (power), S1 SHIELD, S2 SHIELD, S3 SHIELD, S4 SHIELD

## USBLC6-4SC6
designator U?, comment TVS DIODE 5.25VWM 17VC SOT23-6
17V Clamp 5A (8/20µs) Ipp Tvs Diode Surface Mount SOT-23-6; Manufacturer Part Number: USBLC6-4SC6; Order Code: Digi: 497-4492-2-ND; LCSC Manufacturer Part NUmber: USBLC6-4SC6; LCSC Part Number: C111212
footprint SOT95P280X145-6N
pins: 1 I/O1 (io), 2 GND (power), 3 I/O2 (io), 4 I/O3 (io), 5 VP (power), 6 I/O4 (io)

## USBLC6-4SC6_1
designator U?, comment TVS DIODE 5.25VWM 17VC SOT23-6
17V Clamp 5A (8/20µs) Ipp Tvs Diode Surface Mount SOT-23-6; Manufacturer Part Number: USBLC6-4SC6; Order Code: Digi: 497-4492-2-ND; LCSC Manufacturer Part NUmber: USBLC6-4SC6; LCSC Part Number: C111212
footprint SOT95P280X145-6N
pins: 1 I/O1 (io), 2 GND (power), 3 I/O2 (io), 4 I/O3 (io), 5 VP (power), 6 I/O4 (io)

## UVY1H221MPD1TD
designator C?  value 220uF 50V  (hidden comment: UVY1H221MPD1TD)
220 µF 50 V Aluminum Electrolytic Capacitors Radial, Can 2000 Hrs @ 105°C; Order Code: Digi: 493-12916-1-ND; Manufacturer Part Number: UVY1H221MPD1TD; LCSC Manufacturer Part Number: UVY1H221MPD1TD; LCSC Part Number: C340752
footprint CAP_RN_10X12P5_NCH
pins: 1, 2

## UVY1H221MPD1TD_1
designator C?, comment value 220uF 50V  (hidden comment: UVY1H221MPD1TD)
220 µF 50 V Aluminum Electrolytic Capacitors Radial, Can 2000 Hrs @ 105°C; Order Code: Digi: 493-12916-1-ND; Manufacturer Part Number: UVY1H221MPD1TD; LCSC Manufacturer Part Number: UVY1H221MPD1TD; LCSC Part Number: C340752
footprint CAP_RN_10X12P5_NCH
pins: 1, 2

## UVY1H221MPD1TD_2
designator C?, comment value 220uF 50V  (hidden comment: UVY1H221MPD1TD)
220 µF 50 V Aluminum Electrolytic Capacitors Radial, Can 2000 Hrs @ 105°C; Order Code: Digi: 493-12916-1-ND; Manufacturer Part Number: UVY1H221MPD1TD; LCSC Manufacturer Part Number: UVY1H221MPD1TD; LCSC Part Number: C340752
footprint CAP_RN_10X12P5_NCH
pins: 1, 2

## VRB2405S-6WR3
designator U?
footprint VRB2405S-6WR3
pins: 1 GND, 2 VIN, 3 CTRL, 5 N.C, 6 +VOUT, 7 -VOUT, 8 N.C

## VRB2405ZP-6WR3_SCW05B-05
designator U?
footprint VRB2405ZP-6WR3 (Power Supply / Mean Well)
pins: 2 -VIN, 3 -VIN, 9 N.C, 11 N.C, 14 +VOUT, 16 -VOUT, 22 +VIN, 23 +VIN

## W25N01GVZEIG_TR
designator U?
FLASH - NAND Memory IC 1Gb (128M x 8) SPI 104 MHz 8-WSON (8x6); MF: Winbond Electronics; MP: W25N01GVZEIG TR; Value: *; SnapEDA_Link: https://www.snapeda.com/parts/W25N01GVZEIG%20TR/Winbond+Electronics/view-part/?ref=snap; Purchase-URL: https://pricing.snapeda.com/search/part/W25N01GVZEIG TR/?ref=eda; Availability: In Stock; Price: None; Package: WSON-8 Winbond; Check_prices: https://www.snapeda.com/parts/W25N01GVZEIG%20TR/Winbond+Electronics/view-part/?ref=eda
footprint SON127P800X600X80-9N
pins: 1 /CS (in), 2 DO(IO1) (io), 3 /WP(IO2) (io), 4 GND (power), 5 DI(IO0) (io), 6 CLK (in), 7 /HOLD(IO3) (io), 8 VCC (power)

## WE-HEPC_6030
designator L?
MF: {'manufacturer': u'Wurth Elektronik'}; MP: 74408063004; Package: None; Price: None; Value: *; Availability: Unavailable
footprint WE-HEPC_6030
pins: 1, 2

## WEEE Symbol 3x4.5mm
designator LOGO?, comment WEE Symbol  (no BOM)
WEEE Directive symbol; Part Number: WEEE Symbol 3x4.5mm; Manufacturer: N.A.; Part number NEMS: 101100006; Component Status: Active; Pad Count: 0; PartId: 101100006; Component Class: Markings; Author: rsk; Manufacturer Part Number: N.A.; ComponentLink1URL: N.A.; ComponentLink1Description: Datasheet; ComponentLink2URL: N.A.; ComponentLink2Description: Supplier link; HelpURL: N.A.; LatestRevisionDate: 2023-03-07; Published: 2016-09-07; Footprint Doc: WEE_3x4.5mm; Value: WEE Symbol; Note: N.A.; Supplier 1: N.A.; Supplier Part Number 1: N.A.; Supplier 2: N.A.; Supplier Part Number 2: N.A.; Artikkelnr Noca: N.A.; Part number IPS: N.A.; Part number Norautron: N.A.
footprint WEE_3x4.5mm

## WL-SMCW_0603
designator D?
0603, Blue Typ.(@20mA): 470nm, 145mcd, 3.2V, 140Â° InGaN; MF: Wurth Electronics; MP: 150060BS75000; SnapEDA_Link: https://www.snapeda.com/parts/150060BS75000/Wurth+Electronics/view-part/?ref=snap; Package: 0603 Wurth Electronics; Value: *; Check_prices: https://www.snapeda.com/parts/150060BS75000/Wurth+Electronics/view-part/?ref=eda
footprint WL-SMCW_0603
pins: 1 NEG, 2 POS
text: +

## XG4A-2631
designator J?
No Description Available; Manufacturer_Name: Omron; Copyright: Copyright (C) 2025 Ultra Librarian. All rights reserved.; Manufacturer_Part_Number: XG4A-2631; RefDes: RefDes; Type: Type
footprint CONN_XG4A-2631_OMR
pins: 1, 2, 3, 4, 5, 6, 7, 8, 9, 10, 11, 12, 13, 14, 15, 16, 17, 18, 19, 20, 21, 22, 23, 24, 25, 26

## XG4A-4031
designator J?
No Description Available; Manufacturer_Name: Omron; Copyright: Copyright (C) 2025 Ultra Librarian. All rights reserved.; Manufacturer_Part_Number: XG4A-4031; RefDes: RefDes; Type: Type
footprint CONN_XG4A-4031_OMR
pins: 1, 2, 3, 4, 5, 6, 7, 8, 9, 10, 11, 12, 13, 14, 15, 16, 17, 18, 19, 20, 21, 22, 23, 24, 25, 26, 27, 28, 29, 30, 31, 32, 33, 34, 35, 36, 37, 38, 39, 40

## XTAL_SMD1612_40MHz_8pF
designator X?, comment 40MHz
XTAL SMD 1612, 40MHz, Cl=8pF, Total Tol: ±10ppm; Part Number: XTAL_SMD1612_40MHz_8pF; Manufacturer: Abracon Corporation; Manufacturer Part Number: ABM12W-40.0000MHZ-8-B1U-T3; Part number NEMS: 101600095; Pad Count: 4; Note: XTAL SMD 40.000MHz 8pF; Artikkelnr Noca: N.A.; Component Status: Active; Component Class: Oscillators; Author: prbu; ComponentLink1URL: https://www.digikey.com/en/products/detail/abracon-llc/ABM12W-40-0000MHZ-8-B1U-T3/7172762; ComponentLink1Description: Datasheet; ComponentLink2URL: https://www.mouser.com/ProductDetail/ABRACON/ABM12W-400000MHZ-8-B1U-T3?qs=5aG0NVq1C4xvMMZKQsjLcA%3D%3D; ComponentLink2Description: Supplier link; HelpURL: N.A.; Footprint Doc: XTAL_1612; LatestRevisionDate: 2022-01-20; Published: 2022-01-20; Value: 40MHz; Supplier 1: Digi-Key; Supplier Part Number 1: 535-13991-2-ND; Supplier 2: N.A.; Supplier Part Number 2: N.A.; Part number IPS: N.A.; Part number Norautron: N.A.; PartId: 101600095
footprint BT-XTAL_1612
pins: 1 inp, 2 GND hidden to GND, 3 out, 4 GND hidden to GND

## XTAL_SMD2012_32.768kHz_9pF_Golledge
designator X?, comment 32.768kHz
XTAL SMD 2012, 32.768kHz, 9pF, ±20ppm; Part Number: XTAL_SMD2012_32.768kHz_9pF_Golledge; Manufacturer: Golledge; Manufacturer Part Number: MP07668; Part number Norautron: 26470047; Part number NEMS: 101600017; Pad Count: 2; Artikkelnr Noca: N.A.; Note: XTAL SMD 32.768kHz; Component Status: Active; Value: 32.768kHz; Footprint Doc: XTAL_2012; Component Class: Oscillators; Author: rsk; ComponentLink1Description: Datasheet; ComponentLink1URL: N.A.; ComponentLink2Description: Supplier link; ComponentLink2URL: N.A.; HelpURL: \\hizz\pro\app9717\Datasheet\crystals\Golledge\mp07668.pdf; LatestRevisionDate: 2016-11-02; PartId: 101600017; Part number IPS: N.A.; Published: 2016-11-02; Supplier 1: Link Nordic; Supplier 2: N.A.; Supplier Part Number 1: N.A.; Supplier Part Number 2: N.A.
footprint XTAL_2012
pins: 1 inp, 2 out

## XTAL_SMD2016_32MHz_8pF_Kyocera_SA
designator X?, comment 32MHz
XTAL SMD 2016, 32MHz, Cl=8pF, ±30ppm, -40°C ~ 105°C; Part Number: XTAL_SMD2016_32MHz_8pF_Kyocera_SA; Manufacturer: Kyocera; Manufacturer Part Number: CX2016SA32000D0WRQG1; Part number NEMS: 101600100; Pad Count: 4; Artikkelnr Noca: N.A.; Note: XTAL SMD 32.000MHz; Component Status: Active; Value: 32MHz; Footprint Doc: XTAL_2016; Component Class: Oscillators; Author: hany; ComponentLink1Description: Datasheet; ComponentLink1URL: N.A.; ComponentLink2Description: Supplier link; ComponentLink2URL: N.A.; HelpURL: N.A.; LatestRevisionDate: 2022-09-19; PartId: 101600100; Part number IPS: N.A.; Part number Norautron: N.A.; Published: 2022-09-19; Supplier 1: N.A.; Supplier 2: N.A.; Supplier Part Number 1: N.A.; Supplier Part Number 2: N.A.
footprint BT-XTAL_2016
pins: 1 inp, 2 GND hidden to GND, 3 out, 4 GND hidden to GND

## ZV470M016C055ETR
designator C?, comment value 47uF 16V  (hidden comment: 47uF 16V ±20% SMD,D5xL5.5mm Aluminum Electrolytic Capacitors - SMD ROHS)
Manufacturer Part Number: ZV470M016C055ETR; Order Code: LCSC: C84357; LCSC Manufacturer Part Number: ZV470M016C055ETR; LCSC Part Number: C84357
footprint CAP_16SVPG47M
pins: 1, 2

## ZV470M016C055ETR_1
designator C?, comment value 47uF 16V  (hidden comment: 47uF 16V ±20% SMD,D5xL5.5mm Aluminum Electrolytic Capacitors - SMD ROHS)
Manufacturer Part Number: ZV470M016C055ETR; Order Code: LCSC: C84357; LCSC Manufacturer Part Number: ZV470M016C055ETR; LCSC Part Number: C84357
footprint CAP_16SVPG47M
pins: 1, 2